# EAGLE library part HSCH-1.5-2U-12 (library electronic-labs)
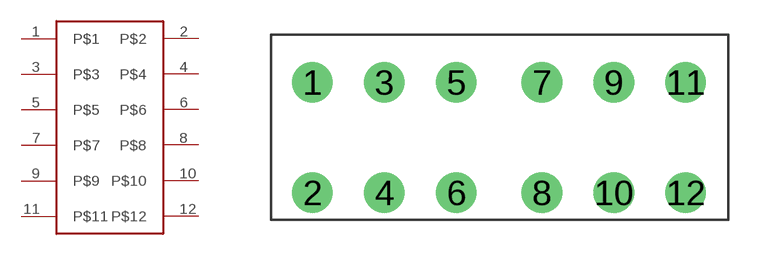
[diagram p16: symbol with the pads of HSCH-1.5-2U/12-9005; footprint HSCH-1.5-2U/12-9005]

Designator prefix X

## HSCH-1.5-2U-12  [HSCH-1.5-2U/12-9005]
1  P$1
2  P$2
3  P$3
4  P$4
5  P$5
6  P$6
7  P$7
8  P$8
9  P$9
10  P$10
11  P$11
12  P$12

## Footprint HSCH-1.5-2U/12-9005 (pad centres in mm)
drill 1.3: 1 -15.24,6.35; 2 -15.24,1.05; 3 -11.79,6.35; 4 -11.79,1.05; 5 -8.34,6.35; 6 -8.34,1.05; 7 -4.24,6.35; 8 -4.24,1.05; 9 -0.79,6.35; 10 -0.79,1.05; 11 2.66,6.35; 12 2.66,1.05